# Altium footprint library terminal_blocks.PcbLib: 2 footprints
Each footprint in its own frame and in the unit in brackets; x right, y up, seen from the top. Pads: shape width x height; smd on the part's side, far side on the other; paste and mask are expansions set on the pad; w line width, h text height; cw(c..) or ccw(c..) is an arc to the next point about the centre after c.
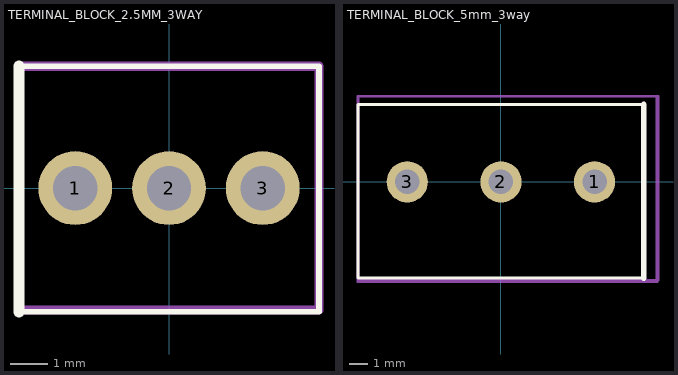
[diagram p0: the footprints below, top view; thin cyan lines are the x and y axes]

## TERMINAL_BLOCK_2.5MM_3WAY [mm] "terminal block 2.5mm 3way"
pads (3):
  round 2 hole 1.2: 1(-2.54,0) 2(0,0) 3(2.54,0)
Top Overlay:
  lines w0.152: -4.064,-3.349 4.064,-3.349 4.064,3.302 -4.064,3.302
  lines w0.305: -4.064,-3.349 -4.064,3.302
Top Assembly:
  lines w0.254: -4.064,-3.302 -4.064,3.302 4.064,3.302 4.064,-3.302 -4.064,-3.302
Top Courtyard:
  lines w0.254: -4.064,-3.302 -4.064,3.302 4.064,3.302 4.064,-3.302 -4.064,-3.302
3D body "2396254_282834-3.stp": height 10, standoff -3.4, extent -4.04,-3.25 4.04,3.25

## TERMINAL_BLOCK_5mm_3way [mm] "terminal block 5mm 3way"
pads (3):
  round 2.2 hole 1.3: 1(5,0) 2(0,0) 3(-5,0)
Top Overlay:
  lines w0.152: 7.627,-5.127 -7.627,-5.127 -7.627,4.127 7.627,4.127
  lines w0.305: 7.627,-5.127 7.627,4.127
Top Assembly:
  lines w0.152: -7.62,-5.254 -7.62,4.572 8.382,4.572 8.382,-5.254 -7.62,-5.254
Top Courtyard:
  lines w0.152: -7.62,-5.334 -7.62,4.572 8.335,4.572 8.335,-5.334 -7.62,-5.334
3D body "1715721.stp": height 14.2, standoff -3.5, extent -7.601,-5.264 3.3,4.536
3D body "1715721.stp": height 14.2, standoff -3.5, extent -2.601,-5.264 8.3,4.536